# Altium integrated library Microchip Mixed Signal.IntLib: 1399 symbols (part 36 of 39)
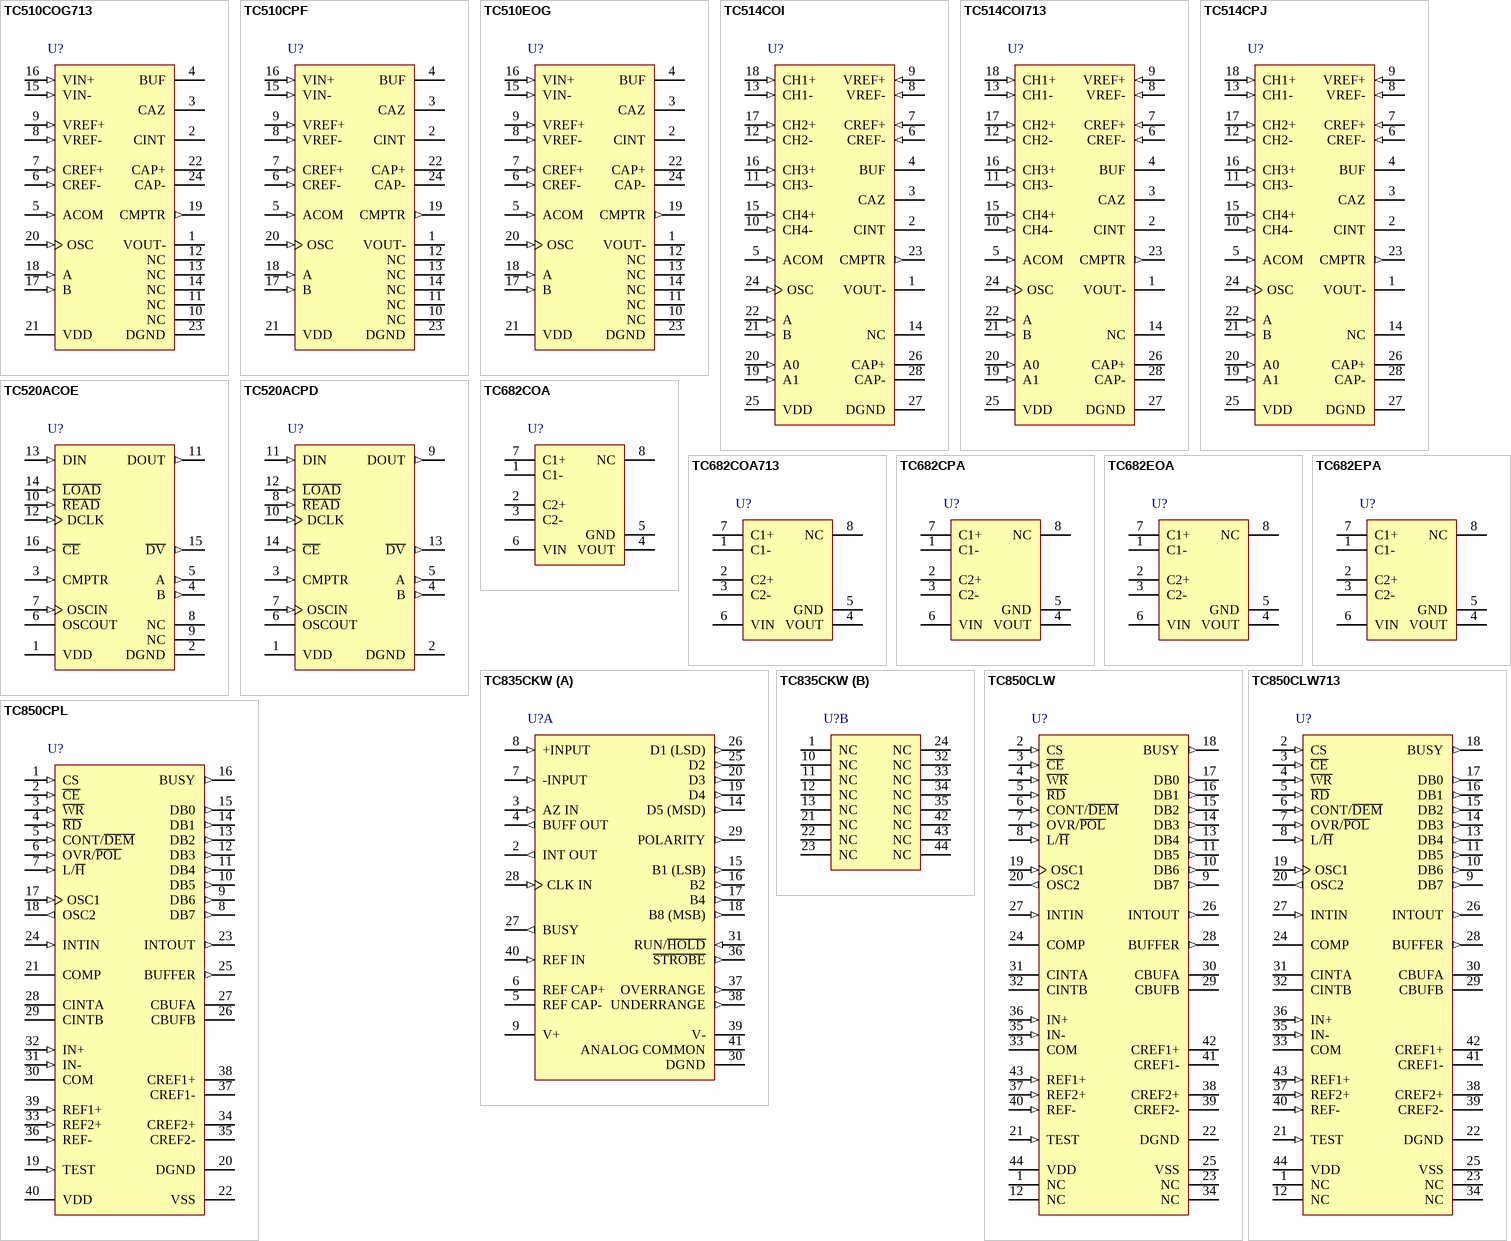
[diagram p79: symbols TC510COG713 to TC850CPL]

## TC510COG713
designator U?
Precision Analog Front Ends, 24-Pin SOIC 300mil, Commercial Temperature, Tape and Reel; Manufacturer: Microchip; PartNumber: TC510COG713; DatasheetVersion: revE, Nov-2008; PackageVersion: revBB, Aug-2009; PackageReference: SOIC-OG24; PackageDescription: 24-Lead Plastic Small Outline (OG) - Wide 7.50mm Body [SOIC]; Supplier 1: Digi-Key; Supplier Part Number 1: TC510COG713-ND; Supplier 2: Mouser; Supplier Part Number 2: 579-TC510COG713; Mounting Technology: Surface Mount; Code_JEDEC: MS-013-AD; ComponentLink1Description: Manufacturer URL; ComponentLink1URL: http://www.microchip.com/; ComponentLink2Description: Datasheet; ComponentLink2URL: http://ww1.microchip.com/downloads/en/DeviceDoc/21428e.pdf; ComponentLink3Description: Package Specification; ComponentLink3URL: http://www.microchip.com/stellent/groups/techpub_sg/documents/packagingspec/en012702.pdf
footprint SOIC-OG24_N (SOIC, 24-Leads, Body 15.4x7.5mm, Pitch 1.27mm, IPC Medium Density)
footprint SOIC-OG24_L (SOIC, 24-Leads, Body 15.4x7.5mm, Pitch 1.27mm, IPC High Density)
footprint SOIC-OG24_M (SOIC, 24-Leads, Body 15.4x7.5mm, Pitch 1.27mm, IPC Low Density)
pins: 1 VOUT- (power), 2 CINT, 3 CAZ, 4 BUF, 5 ACOM (in), 6 CREF- (in), 7 CREF+ (in), 8 VREF- (in), 9 VREF+ (in), 10 NC, 11 NC, 12 NC, 13 NC, 14 NC, 15 VIN- (in), 16 VIN+ (in), 17 B (in), 18 A (in), 19 CMPTR (out), 20 OSC (in), 21 VDD (power), 22 CAP+, 23 DGND (power), 24 CAP-

## TC510CPF
designator U?
Precision Analog Front Ends, 24-Pin PDIP 300mil, Commercial Temperature; Manufacturer: Microchip; PartNumber: TC510CPF; DatasheetVersion: revA, Sep-2006; PackageVersion: revBB, Aug-2009; PackageReference: SPDIP300-PF24; PackageDescription: 24-Lead Skinny Plastic Dual In-Line (PF) - 300 mil Body [SPDIP]; Supplier 1: Digi-Key; Supplier Part Number 1: TC510CPF-ND; Supplier 2: Mouser; Supplier Part Number 2: 579-TC510CPF; Mounting Technology: Through Hole; Code_JEDEC: MS-001-AF; ComponentLink1Description: Manufacturer URL; ComponentLink1URL: http://www.microchip.com/; ComponentLink2Description: Datasheet; ComponentLink2URL: http://ww1.microchip.com/downloads/en/DeviceDoc/22011A.pdf; ComponentLink3Description: Package Specification; ComponentLink3URL: http://www.microchip.com/stellent/groups/techpub_sg/documents/packagingspec/en012702.pdf
footprint SPDIP300-PF24 (DIP, 24-Leads, Row Spacing 7.62mm, Pitch 2.54mm, Body 30.9x6.6mm)
pins: 1 VOUT- (power), 2 CINT, 3 CAZ, 4 BUF, 5 ACOM (in), 6 CREF- (in), 7 CREF+ (in), 8 VREF- (in), 9 VREF+ (in), 10 NC, 11 NC, 12 NC, 13 NC, 14 NC, 15 VIN- (in), 16 VIN+ (in), 17 B (in), 18 A (in), 19 CMPTR (out), 20 OSC (in), 21 VDD (power), 22 CAP+, 23 DGND (power), 24 CAP-

## TC510EOG
designator U?
Precision Analog Front Ends, 24-Pin SOIC 300mil, Extended Temperature; Manufacturer: Microchip; PartNumber: TC510EOG; DatasheetVersion: revE, Nov-2008; PackageVersion: revBB, Aug-2009; PackageReference: SOIC-OG24; PackageDescription: 24-Lead Plastic Small Outline (OG) - Wide 7.50mm Body [SOIC]; Mounting Technology: Surface Mount; Code_JEDEC: MS-013-AD; ComponentLink1Description: Manufacturer URL; ComponentLink1URL: http://www.microchip.com/; ComponentLink2Description: Datasheet; ComponentLink2URL: http://ww1.microchip.com/downloads/en/DeviceDoc/21428e.pdf; ComponentLink3Description: Package Specification; ComponentLink3URL: http://www.microchip.com/stellent/groups/techpub_sg/documents/packagingspec/en012702.pdf
footprint SOIC-OG24_N (SOIC, 24-Leads, Body 15.4x7.5mm, Pitch 1.27mm, IPC Medium Density)
footprint SOIC-OG24_L (SOIC, 24-Leads, Body 15.4x7.5mm, Pitch 1.27mm, IPC High Density)
footprint SOIC-OG24_M (SOIC, 24-Leads, Body 15.4x7.5mm, Pitch 1.27mm, IPC Low Density)
pins: 1 VOUT- (power), 2 CINT, 3 CAZ, 4 BUF, 5 ACOM (in), 6 CREF- (in), 7 CREF+ (in), 8 VREF- (in), 9 VREF+ (in), 10 NC, 11 NC, 12 NC, 13 NC, 14 NC, 15 VIN- (in), 16 VIN+ (in), 17 B (in), 18 A (in), 19 CMPTR (out), 20 OSC (in), 21 VDD (power), 22 CAP+, 23 DGND (power), 24 CAP-

## TC514COI
designator U?
Precision Analog Front Ends, 28-Pin SOIC 300mil, Commercial Temperature; Manufacturer: Microchip; PartNumber: TC514COI; DatasheetVersion: revE, Nov-2008; PackageVersion: revBB, Aug-2009; PackageReference: SOIC-OI28; PackageDescription: 28-Lead Plastic Small Outline (OI) - Wide 7.50mm Body [SOIC]; Supplier 1: Digi-Key; Supplier Part Number 1: TC514COI-ND; Supplier 2: Mouser; Supplier Part Number 2: 579-TC514COI; Mounting Technology: Surface Mount; Code_JEDEC: MS-013-AE; ComponentLink1Description: Manufacturer URL; ComponentLink1URL: http://www.microchip.com/; ComponentLink2Description: Datasheet; ComponentLink2URL: http://ww1.microchip.com/downloads/en/DeviceDoc/21428e.pdf; ComponentLink3Description: Package Specification; ComponentLink3URL: http://www.microchip.com/stellent/groups/techpub_sg/documents/packagingspec/en012702.pdf
footprint SOIC-OI28_N (SOIC, 28-Leads, Body 17.9x7.5mm, Pitch 1.27mm, IPC Medium Density)
footprint SOIC-OI28_L (SOIC, 28-Leads, Body 17.9x7.5mm, Pitch 1.27mm, IPC High Density)
footprint SOIC-OI28_M (SOIC, 28-Leads, Body 17.9x7.5mm, Pitch 1.27mm, IPC Low Density)
pins: 1 VOUT- (power), 2 CINT, 3 CAZ, 4 BUF, 5 ACOM (in), 6 CREF- (in), 7 CREF+ (in), 8 VREF- (in), 9 VREF+ (in), 10 CH4- (in), 11 CH3- (in), 12 CH2- (in), 13 CH1- (in), 14 NC, 15 CH4+ (in), 16 CH3+ (in), 17 CH2+ (in), 18 CH1+ (in), 19 A1 (in), 20 A0 (in), 21 B (in), 22 A (in), 23 CMPTR (out), 24 OSC (in), 25 VDD (power), 26 CAP+, 27 DGND (power), 28 CAP-

## TC514COI713
designator U?
Precision Analog Front Ends, 28-Pin SOIC 300mil, Commercial Temperature, Tape and Reel; Manufacturer: Microchip; PartNumber: TC514COI713; DatasheetVersion: revE, Nov-2008; PackageVersion: revBB, Aug-2009; PackageReference: SOIC-OI28; PackageDescription: 28-Lead Plastic Small Outline (OI) - Wide 7.50mm Body [SOIC]; Supplier 1: Digi-Key; Supplier Part Number 1: TC514COI713-ND; Supplier 2: Mouser; Supplier Part Number 2: 579-TC514COI713; Mounting Technology: Surface Mount; Code_JEDEC: MS-013-AE; ComponentLink1Description: Manufacturer URL; ComponentLink1URL: http://www.microchip.com/; ComponentLink2Description: Datasheet; ComponentLink2URL: http://ww1.microchip.com/downloads/en/DeviceDoc/21428e.pdf; ComponentLink3Description: Package Specification; ComponentLink3URL: http://www.microchip.com/stellent/groups/techpub_sg/documents/packagingspec/en012702.pdf
footprint SOIC-OI28_N (SOIC, 28-Leads, Body 17.9x7.5mm, Pitch 1.27mm, IPC Medium Density)
footprint SOIC-OI28_L (SOIC, 28-Leads, Body 17.9x7.5mm, Pitch 1.27mm, IPC High Density)
footprint SOIC-OI28_M (SOIC, 28-Leads, Body 17.9x7.5mm, Pitch 1.27mm, IPC Low Density)
pins: 1 VOUT- (power), 2 CINT, 3 CAZ, 4 BUF, 5 ACOM (in), 6 CREF- (in), 7 CREF+ (in), 8 VREF- (in), 9 VREF+ (in), 10 CH4- (in), 11 CH3- (in), 12 CH2- (in), 13 CH1- (in), 14 NC, 15 CH4+ (in), 16 CH3+ (in), 17 CH2+ (in), 18 CH1+ (in), 19 A1 (in), 20 A0 (in), 21 B (in), 22 A (in), 23 CMPTR (out), 24 OSC (in), 25 VDD (power), 26 CAP+, 27 DGND (power), 28 CAP-

## TC514CPJ
designator U?
Precision Analog Front Ends, 28-Pin SPDIP, Commercial Temperature; Manufacturer: Microchip; PartNumber: TC514CPJ; DatasheetVersion: revE, Nov-2008; PackageVersion: revBB, Aug-2009; PackageReference: SPDIP300-PJ28; PackageDescription: 28-Lead Skinny Plastic Dual In-Line (PJ) - 300mil Body [SPDIP]; Supplier 1: Digi-Key; Supplier Part Number 1: TC514CPJ-ND; Supplier 2: Mouser; Supplier Part Number 2: 579-TC514CPJ; Mounting Technology: Through Hole; ComponentLink1Description: Manufacturer URL; ComponentLink1URL: http://www.microchip.com/; ComponentLink2Description: Datasheet; ComponentLink2URL: http://ww1.microchip.com/downloads/en/DeviceDoc/21428e.pdf; ComponentLink3Description: Package Specification; ComponentLink3URL: http://www.microchip.com/stellent/groups/techpub_sg/documents/packagingspec/en012702.pdf
footprint SPDIP300-PJ28 (DIP, 28-Leads, Row Spacing 7.62mm, Pitch 2.54mm, Body 34.9x6.8mm)
pins: 1 VOUT- (power), 2 CINT, 3 CAZ, 4 BUF, 5 ACOM (in), 6 CREF- (in), 7 CREF+ (in), 8 VREF- (in), 9 VREF+ (in), 10 CH4- (in), 11 CH3- (in), 12 CH2- (in), 13 CH1- (in), 14 NC, 15 CH4+ (in), 16 CH3+ (in), 17 CH2+ (in), 18 CH1+ (in), 19 A1 (in), 20 A0 (in), 21 B (in), 22 A (in), 23 CMPTR (out), 24 OSC (in), 25 VDD (power), 26 CAP+, 27 DGND (power), 28 CAP-

## TC520ACOE
designator U?
Serial Interface Adapter for TC500 A/D Converter Family, 16-Pin SOIC 300mil, Commercial Temperature; Manufacturer: Microchip; PartNumber: TC520ACOE; DatasheetVersion: Apr-2002; PackageVersion: revBB, Aug-2009; PackageReference: SOIC-OE16; PackageDescription: 16-Lead Plastic Small Outline (OE) - Wide 7.50mm Body [SOIC]; Supplier 1: Digi-Key; Supplier Part Number 1: TC520ACOE-ND; Supplier 2: Mouser; Supplier Part Number 2: 579-TC520ACOE; Mounting Technology: Surface Mount; Code_JEDEC: MS-013-AA; Code_IPC: SOIC127P1030-16; ComponentLink1Description: Manufacturer URL; ComponentLink1URL: http://www.microchip.com/; ComponentLink2Description: Datasheet; ComponentLink2URL: http://ww1.microchip.com/downloads/en/DeviceDoc/21431b.pdf; ComponentLink3Description: Package Specification; ComponentLink3URL: http://www.microchip.com/stellent/groups/techpub_sg/documents/packagingspec/en012702.pdf
footprint SOIC-OE16_N (SOIC, 16-Leads, Body 10.3x7.5mm, Pitch 1.27mm, IPC Medium Density)
footprint SOIC-OE16_L (SOIC, 16-Leads, Body 10.3x7.5mm, Pitch 1.27mm, IPC High Density)
footprint SOIC-OE16_M (SOIC, 16-Leads, Body 10.3x7.5mm, Pitch 1.27mm, IPC Low Density)
pins: 1 VDD (power), 2 DGND (power), 3 CMPTR (in), 4 B (out), 5 A (out), 6 OSCOUT, 7 OSCIN (in), 8 NC, 9 NC, 10 ~{READ} (in), 11 DOUT (out), 12 DCLK (in), 13 DIN (in), 14 ~{LOAD} (in), 15 ~{DV} (out), 16 ~{CE} (in)

## TC520ACPD
designator U?
Serial Interface Adapter for TC500 A/D Converter Family, 14-Pin PDIP, Commercial Temperature; Manufacturer: Microchip; PartNumber: TC520ACPD; DatasheetVersion: Apr-2002; PackageVersion: revBB, Aug-2009; PackageReference: PDIP300-PD14; PackageDescription: 14-Lead Plastic Dual In-Line (PD) - 300 mil Body [PDIP]; Supplier 1: Digi-Key; Supplier Part Number 1: TC520ACPD-ND; Supplier 2: Mouser; Supplier Part Number 2: 579-TC520ACPD; Mounting Technology: Through Hole; Code_JEDEC: MS-001-AA; ComponentLink1Description: Manufacturer URL; ComponentLink1URL: http://www.microchip.com/; ComponentLink2Description: Datasheet; ComponentLink2URL: http://ww1.microchip.com/downloads/en/DeviceDoc/21431b.pdf; ComponentLink3Description: Package Specification; ComponentLink3URL: http://www.microchip.com/stellent/groups/techpub_sg/documents/packagingspec/en012702.pdf
footprint PDIP300-PD14 (DIP, 14-Leads, Row Spacing 7.62mm, Pitch 2.54mm, Body 19.2x6.6mm)
pins: 1 VDD (power), 2 DGND (power), 3 CMPTR (in), 4 B (out), 5 A (out), 6 OSCOUT, 7 OSCIN (in), 8 ~{READ} (in), 9 DOUT (out), 10 DCLK (in), 11 DIN (in), 12 ~{LOAD} (in), 13 ~{DV} (out), 14 ~{CE} (in)

## TC682COA
designator U?
Inverting Voltage Doubler, 8-pin SOIC, Commercial Temperature; Manufacturer: Microchip; PartNumber: TC682COA; DatasheetVersion: revC, Jun-2006; PackageVersion: revBB, Aug-2009; PackageReference: SOIC-OA8; PackageDescription: 8-Lead Plastic Small Outline (OA) - Narrow, 3.90mm Body [SOIC]; Supplier 1: Digi-Key; Supplier Part Number 1: TC682COA-ND; Supplier 2: Mouser; Supplier Part Number 2: 579-TC682COA; Mounting Technology: Surface Mount; Code_IPC: SOIC127P600-8; ComponentLink1Description: Manufacturer URL; ComponentLink1URL: http://www.microchip.com/; ComponentLink2Description: Datasheet; ComponentLink2URL: http://ww1.microchip.com/downloads/en/DeviceDoc/21453C.pdf; ComponentLink3Description: Package Specification; ComponentLink3URL: http://www.microchip.com/stellent/groups/techpub_sg/documents/packagingspec/en012702.pdf
footprint SOIC-OA8_N (SOIC, 8-Leads, Body 4.9x3.9mm, Pitch 1.27mm, IPC Medium Density)
footprint SOIC-OA8_L (SOIC, 8-Leads, Body 4.9x3.9mm, Pitch 1.27mm, IPC High Density)
footprint SOIC-OA8_M (SOIC, 8-Leads, Body 4.9x3.9mm, Pitch 1.27mm, IPC Low Density)
pins: 1 C1-, 2 C2+, 3 C2-, 4 VOUT (power), 5 GND (power), 6 VIN (power), 7 C1+, 8 NC

## TC682COA713
designator U?
Inverting Voltage Doubler, 8-pin SOIC, Commercial Temperature, Tape and Reel; Manufacturer: Microchip; PartNumber: TC682COA713; DatasheetVersion: revC, Jun-2006; PackageVersion: revBB, Aug-2009; PackageReference: SOIC-OA8; PackageDescription: 8-Lead Plastic Small Outline (OA) - Narrow, 3.90mm Body [SOIC]; Supplier 1: Digi-Key; Supplier Part Number 1: TC682COA713-ND; Supplier 2: Mouser; Supplier Part Number 2: 579-TC682COA713; Mounting Technology: Surface Mount; Code_IPC: SOIC127P600-8; ComponentLink1Description: Manufacturer URL; ComponentLink1URL: http://www.microchip.com/; ComponentLink2Description: Datasheet; ComponentLink2URL: http://ww1.microchip.com/downloads/en/DeviceDoc/21453C.pdf; ComponentLink3Description: Package Specification; ComponentLink3URL: http://www.microchip.com/stellent/groups/techpub_sg/documents/packagingspec/en012702.pdf
footprint SOIC-OA8_N (SOIC, 8-Leads, Body 4.9x3.9mm, Pitch 1.27mm, IPC Medium Density)
footprint SOIC-OA8_L (SOIC, 8-Leads, Body 4.9x3.9mm, Pitch 1.27mm, IPC High Density)
footprint SOIC-OA8_M (SOIC, 8-Leads, Body 4.9x3.9mm, Pitch 1.27mm, IPC Low Density)
pins: 1 C1-, 2 C2+, 3 C2-, 4 VOUT (power), 5 GND (power), 6 VIN (power), 7 C1+, 8 NC

## TC682CPA
designator U?
Inverting Voltage Doubler, 8-pin PDIP, Commercial Temperature; Manufacturer: Microchip; PartNumber: TC682CPA; DatasheetVersion: revC, Jun-2006; PackageVersion: revBB, Aug-2009; PackageReference: PDIP300-PA8; PackageDescription: 8-Lead Plastic Dual In-Line (PA) - 300 mil Body [PDIP]; Supplier 1: Digi-Key; Supplier Part Number 1: TC682CPA-ND; Supplier 2: Mouser; Supplier Part Number 2: 579-TC682CPA; Mounting Technology: Through Hole; Code_JEDEC: MS-001-BA; ComponentLink1Description: Manufacturer URL; ComponentLink1URL: http://www.microchip.com/; ComponentLink2Description: Datasheet; ComponentLink2URL: http://ww1.microchip.com/downloads/en/DeviceDoc/21453C.pdf; ComponentLink3Description: Package Specification; ComponentLink3URL: http://www.microchip.com/stellent/groups/techpub_sg/documents/packagingspec/en012702.pdf
footprint PDIP300-PA8 (DIP, 8-Leads, Row Spacing 7.62mm, Pitch 2.54mm, Body 9.5x6.6mm)
pins: 1 C1-, 2 C2+, 3 C2-, 4 VOUT (power), 5 GND (power), 6 VIN (power), 7 C1+, 8 NC

## TC682EOA
designator U?
Inverting Voltage Doubler, 8-pin SOIC, Extended Temperature; Manufacturer: Microchip; PartNumber: TC682EOA; DatasheetVersion: revC, Jun-2006; PackageVersion: revBB, Aug-2009; PackageReference: SOIC-OA8; PackageDescription: 8-Lead Plastic Small Outline (OA) - Narrow, 3.90mm Body [SOIC]; Supplier 1: Digi-Key; Supplier Part Number 1: TC682EOA-ND; Supplier 2: Newark; Supplier Part Number 2: 92C6438; Supplier 3: Mouser; Supplier Part Number 3: 579-TC682EOA; Mounting Technology: Surface Mount; Code_IPC: SOIC127P600-8; ComponentLink1Description: Manufacturer URL; ComponentLink1URL: http://www.microchip.com/; ComponentLink2Description: Datasheet; ComponentLink2URL: http://ww1.microchip.com/downloads/en/DeviceDoc/21453C.pdf; ComponentLink3Description: Package Specification; ComponentLink3URL: http://www.microchip.com/stellent/groups/techpub_sg/documents/packagingspec/en012702.pdf
footprint SOIC-OA8_N (SOIC, 8-Leads, Body 4.9x3.9mm, Pitch 1.27mm, IPC Medium Density)
footprint SOIC-OA8_L (SOIC, 8-Leads, Body 4.9x3.9mm, Pitch 1.27mm, IPC High Density)
footprint SOIC-OA8_M (SOIC, 8-Leads, Body 4.9x3.9mm, Pitch 1.27mm, IPC Low Density)
pins: 1 C1-, 2 C2+, 3 C2-, 4 VOUT (power), 5 GND (power), 6 VIN (power), 7 C1+, 8 NC

## TC682EPA
designator U?
Inverting Voltage Doubler, 8-pin PDIP, Extended Temperature; Manufacturer: Microchip; PartNumber: TC682EPA; DatasheetVersion: revC, Jun-2006; PackageVersion: revBB, Aug-2009; PackageReference: PDIP300-PA8; PackageDescription: 8-Lead Plastic Dual In-Line (PA) - 300 mil Body [PDIP]; Supplier 1: Digi-Key; Supplier Part Number 1: TC682EPA-ND; Supplier 2: Farnell; Supplier Part Number 2: 1852294; Supplier 3: Newark; Supplier Part Number 3: 92C6440; Supplier 4: Mouser; Supplier Part Number 4: 579-TC682EPA; Mounting Technology: Through Hole; Code_JEDEC: MS-001-BA; ComponentLink1Description: Manufacturer URL; ComponentLink1URL: http://www.microchip.com/; ComponentLink2Description: Datasheet; ComponentLink2URL: http://ww1.microchip.com/downloads/en/DeviceDoc/21453C.pdf; ComponentLink3Description: Package Specification; ComponentLink3URL: http://www.microchip.com/stellent/groups/techpub_sg/documents/packagingspec/en012702.pdf
footprint PDIP300-PA8 (DIP, 8-Leads, Row Spacing 7.62mm, Pitch 2.54mm, Body 9.5x6.6mm)
pins: 1 C1-, 2 C2+, 3 C2-, 4 VOUT (power), 5 GND (power), 6 VIN (power), 7 C1+, 8 NC

## TC835CKW
designator U?
Personal Computer Data Acquisition A/D Converter, 200 kHz, Single 5 V Supply, 0 to 70 degC, 44-pin MQFP (KW44), Tray; Manufacturer: Microchip; PartNumber: TC835CKW; DatasheetVersion: Rev. C; PackageVersion: C04-071B; PackageReference: MQFP-KW44; PackageDescription: 44-Lead Plastic Metric Quad Flatpack, 10 x 10 mm Body, 0.8 mm Pitch; Supplier 1: Digi-Key; Supplier Part Number 1: TC835CKW-ND; Supplier 2: Mouser; Supplier Part Number 2: 579-TC835CKW; Mounting Technology: Surface Mount; ComponentLink1Description: Manufacturer URL; ComponentLink1URL: http://www.microchip.com; ComponentLink2Description: Datasheet; ComponentLink2URL: http://ww1.microchip.com/downloads/en/DeviceDoc/21478c.pdf; ComponentLink3Description: Package Specification; ComponentLink3URL: http://www.microchip.com/stellent/groups/techpub_sg/documents/packagingspec/en012702.pdf; ComponentLink4Description: Product URL; ComponentLink4URL: http://www.microchip.com/TC835
footprint MCHP-MQFP-KW44_N (QFP, 44-Leads, Body 10x1mm, Pitch 0.8mm, IPC Medium Density)
footprint MCHP-MQFP-KW44_L (QFP, 44-Leads, Body 10x1mm, Pitch 0.8mm, IPC High Density)
footprint MCHP-MQFP-KW44_M (QFP, 44-Leads, Body 10x1mm, Pitch 0.8mm, IPC Low Density)
part A pins: 2 INT OUT (out) "Integrator output. Integrator capacitor connection.", 3 AZ IN (in) "Auto zero input. Auto zero capacitor connection.", 4 BUFF OUT (out) "Analog input buffer output. Integrator resistor connection.", 5 REF CAP- "Reference capacitor input. Reference capacitor negative connection.", 6 REF CAP+ "Reference capacitor input. Reference capacitor positive connection.", 7 -INPUT (in) "Analog input. Analog input negative connection.", 8 +INPUT (in) "Analog input. Analog input positive connection", 9 V+ (power) "Positive power supply input", 14 D5 (MSD) (out) "Digit drive output. Most Significant Digit (MSD)", 15 B1 (LSB) (out) "Binary Coded Decimal (BCD) output. Least Significant Bit (LSB)", 16 B2 (out) "BCD output.", 17 B4 (out) "BCD output.", 18 B8 (MSB) (out) "BCD output. Most Significant Bit (MSB)", 19 D4 (out) "Digit drive output.", 20 D3 (out) "Digit drive output.", 25 D2 (out) "Digit drive output.", 26 D1 (LSD) (out) "Digit drive output. Leas t Significant Digit (LSD)", 27 BUSY (out) "Busy output. At the beginning of the  signal-integration phase, BUSY goes High and remains High until the first clock pulse after the integrator zero crossing.", 28 CLK IN (in) "Clock input. Conversion clock connection.", 29 POLARITY (out) "Polarity output. A positive input is indicated by a logic High output. The polarity output is valid at the beginning of the reference integrate phase and remains valid until determined during the next conversion.", 30 DGND (power) "Digital logic reference input.", 31 RUN/~{HOLD} (in) "Run / Hold input. When at a logic High, conversions are performed continuously. A logic Low holds the current data as long as the Low condition exists.", 36 ~{STROBE} (out) "Strobe output. The STROBE output pulses low in the center of the digit drive outputs.", 37 OVERRANGE (out) "Over range output. A logic High indicates that the analog input exceeds the full scale input range.", 38 UNDERRANGE (out) "Under range output. A logic High indicates that the analog input is less than 9% of the full scale input range.", 39 V- (power) "Negative power supply input.", 40 REF IN (in) "External reference input.", 41 ANALOG COMMON (power) "Reference point for REF IN."
part B pins: 1 NC "No internal connection.", 10 NC "No internal connection.", 11 NC "No internal connection.", 12 NC "No internal connection.", 13 NC "No internal connection.", 21 NC "No internal connection.", 22 NC "No internal connection.", 23 NC "No internal connection.", 24 NC "No internal connection.", 32 NC "No internal connection.", 33 NC "No internal connection.", 34 NC "No internal connection.", 35 NC "No internal connection.", 42 NC "No internal connection.", 43 NC "No internal connection.", 44 NC "No internal connection."

## TC850CLW
designator U?
15-Bit, Fast Integrating CMOS A/D Converter, 44-Pin PLCC, Commercial Temperature; Manufacturer: Microchip; PartNumber: TC850CLW; DatasheetVersion: Feb-2006; PackageVersion: revBB, Aug-2009; PackageReference: PLCC-LW44; PackageDescription: 44-Lead Plastic Leaded Chip Carrier (LW) - Square [PLCC]; Supplier 1: Digi-Key; Supplier Part Number 1: TC850CLW-ND; Supplier 2: Newark; Supplier Part Number 2: 96K4051; Supplier 3: Mouser; Supplier Part Number 3: 579-TC850CLW; Mounting Technology: Surface Mount; Code_IPC: PLCC-44; ComponentLink1Description: Manufacturer URL; ComponentLink1URL: http://www.microchip.com/; ComponentLink2Description: Datasheet; ComponentLink2URL: http://ww1.microchip.com/downloads/en/DeviceDoc/21479C.pdf; ComponentLink3Description: Package Specification; ComponentLink3URL: http://www.microchip.com/stellent/groups/techpub_sg/documents/packagingspec/en012702.pdf
footprint PLCC-LW44_N (Leaded Chip Carrier, 44-Leads, Body 16.6x16.6mm, Pitch 1.27mm, IPC Medium Density)
footprint PLCC-LW44_L (Leaded Chip Carrier, 44-Leads, Body 16.6x16.6mm, Pitch 1.27mm, IPC High Density)
footprint PLCC-LW44_M (Leaded Chip Carrier, 44-Leads, Body 16.6x16.6mm, Pitch 1.27mm, IPC Low Density)
pins: 1 NC, 2 CS (in), 3 ~{CE} (in), 4 ~{WR} (in), 5 ~{RD} (in), 6 CONT/~{DEM} (in), 7 OVR/~{POL} (in), 8 L/~{H} (in), 9 DB7 (out), 10 DB6 (out), 11 DB5 (out), 12 NC, 13 DB4 (out), 14 DB3 (out), 15 DB2 (out), 16 DB1 (out), 17 DB0 (out), 18 BUSY (out), 19 OSC1 (in), 20 OSC2 (out), 21 TEST (in), 22 DGND (power), 23 NC, 24 COMP, 25 VSS (power), 26 INTOUT (out), 27 INTIN (in), 28 BUFFER (out), 29 CBUFB, 30 CBUFA, 31 CINTA, 32 CINTB, 33 COM (power), 34 NC, 35 IN- (in), 36 IN+ (in), 37 REF2+ (in), 38 CREF2+, 39 CREF2-, 40 REF- (in), 41 CREF1-, 42 CREF1+, 43 REF1+ (in), 44 VDD (power)

## TC850CLW713
designator U?
15-Bit, Fast Integrating CMOS A/D Converter, 44-Pin PLCC, Commercial Temperature, Tape and Reel; Manufacturer: Microchip; PartNumber: TC850CLW713; DatasheetVersion: Feb-2006; PackageVersion: revBB, Aug-2009; PackageReference: PLCC-LW44; PackageDescription: 44-Lead Plastic Leaded Chip Carrier (LW) - Square [PLCC]; Supplier 1: Digi-Key; Supplier Part Number 1: TC850CLW713-ND; Supplier 2: Mouser; Supplier Part Number 2: 579-TC850CLW713; Mounting Technology: Surface Mount; Code_IPC: PLCC-44; ComponentLink1Description: Manufacturer URL; ComponentLink1URL: http://www.microchip.com/; ComponentLink2Description: Datasheet; ComponentLink2URL: http://ww1.microchip.com/downloads/en/DeviceDoc/21479C.pdf; ComponentLink3Description: Package Specification; ComponentLink3URL: http://www.microchip.com/stellent/groups/techpub_sg/documents/packagingspec/en012702.pdf
footprint PLCC-LW44_N (Leaded Chip Carrier, 44-Leads, Body 16.6x16.6mm, Pitch 1.27mm, IPC Medium Density)
footprint PLCC-LW44_L (Leaded Chip Carrier, 44-Leads, Body 16.6x16.6mm, Pitch 1.27mm, IPC High Density)
footprint PLCC-LW44_M (Leaded Chip Carrier, 44-Leads, Body 16.6x16.6mm, Pitch 1.27mm, IPC Low Density)
pins: 1 NC, 2 CS (in), 3 ~{CE} (in), 4 ~{WR} (in), 5 ~{RD} (in), 6 CONT/~{DEM} (in), 7 OVR/~{POL} (in), 8 L/~{H} (in), 9 DB7 (out), 10 DB6 (out), 11 DB5 (out), 12 NC, 13 DB4 (out), 14 DB3 (out), 15 DB2 (out), 16 DB1 (out), 17 DB0 (out), 18 BUSY (out), 19 OSC1 (in), 20 OSC2 (out), 21 TEST (in), 22 DGND (power), 23 NC, 24 COMP, 25 VSS (power), 26 INTOUT (out), 27 INTIN (in), 28 BUFFER (out), 29 CBUFB, 30 CBUFA, 31 CINTA, 32 CINTB, 33 COM (power), 34 NC, 35 IN- (in), 36 IN+ (in), 37 REF2+ (in), 38 CREF2+, 39 CREF2-, 40 REF- (in), 41 CREF1-, 42 CREF1+, 43 REF1+ (in), 44 VDD (power)

## TC850CPL
designator U?
15-Bit, Fast Integrating CMOS A/D Converter, 40-Pin PDIP, Commercial Temperature; Manufacturer: Microchip; PartNumber: TC850CPL; DatasheetVersion: Feb-2006; PackageVersion: revBB, Aug-2009; PackageReference: PDIP600-PL40; PackageDescription: 40-Lead Plastic Dual In-Line (PL) - 600mil Body [PDIP]; Supplier 1: Digi-Key; Supplier Part Number 1: TC850CPL-ND; Supplier 2: Newark; Supplier Part Number 2: 59K0276; Supplier 3: Mouser; Supplier Part Number 3: 579-TC850CPL; Mounting Technology: Through Hole; ComponentLink1Description: Manufacturer URL; ComponentLink1URL: http://www.microchip.com/; ComponentLink2Description: Datasheet; ComponentLink2URL: http://ww1.microchip.com/downloads/en/DeviceDoc/21479C.pdf; ComponentLink3Description: Package Specification; ComponentLink3URL: http://www.microchip.com/stellent/groups/techpub_sg/documents/packagingspec/en012702.pdf
footprint PDIP600-PL40 (DIP, 40-Leads, Row Spacing 15.24mm, Pitch 2.54mm, Body 51.8x13.5mm)
pins: 1 CS (in), 2 ~{CE} (in), 3 ~{WR} (in), 4 ~{RD} (in), 5 CONT/~{DEM} (in), 6 OVR/~{POL} (in), 7 L/~{H} (in), 8 DB7 (out), 9 DB6 (out), 10 DB5 (out), 11 DB4 (out), 12 DB3 (out), 13 DB2 (out), 14 DB1 (out), 15 DB0 (out), 16 BUSY (out), 17 OSC1 (in), 18 OSC2 (out), 19 TEST (in), 20 DGND (power), 21 COMP, 22 VSS (power), 23 INTOUT (out), 24 INTIN (in), 25 BUFFER (out), 26 CBUFB, 27 CBUFA, 28 CINTA, 29 CINTB, 30 COM (power), 31 IN- (in), 32 IN+ (in), 33 REF2+ (in), 34 CREF2+, 35 CREF2-, 36 REF- (in), 37 CREF1-, 38 CREF1+, 39 REF1+ (in), 40 VDD (power)

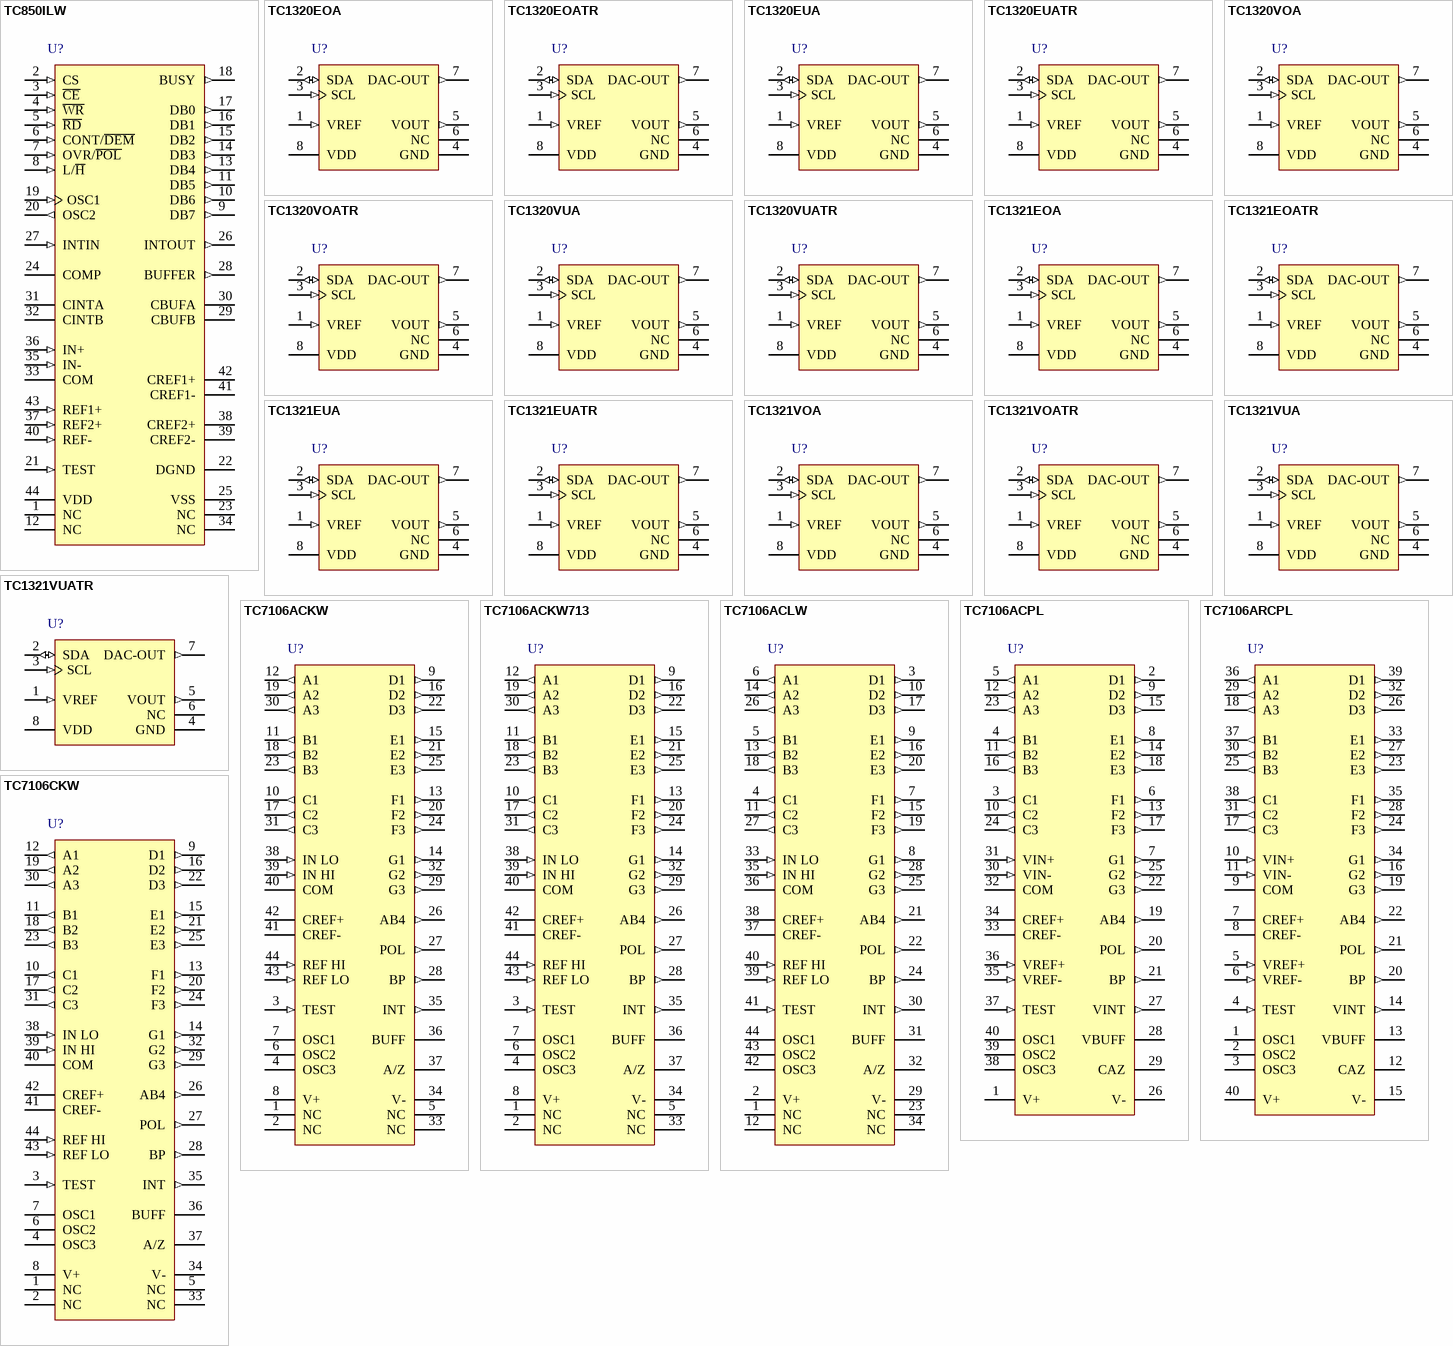
[diagram p38: symbols TC850ILW to TC7106CKW]

## TC850ILW
designator U?
15-Bit, Fast Integrating CMOS A/D Converter, 44-Pin PLCC, Industrial Temperature; Manufacturer: Microchip; PartNumber: TC850ILW; DatasheetVersion: Feb-2006; PackageVersion: revBB, Aug-2009; PackageReference: PLCC-LW44; PackageDescription: 44-Lead Plastic Leaded Chip Carrier (LW) - Square [PLCC]; Supplier 1: Digi-Key; Supplier Part Number 1: TC850ILW-ND; Supplier 2: Mouser; Supplier Part Number 2: 579-TC850ILW; Mounting Technology: Surface Mount; Code_IPC: PLCC-44; ComponentLink1Description: Manufacturer URL; ComponentLink1URL: http://www.microchip.com/; ComponentLink2Description: Datasheet; ComponentLink2URL: http://ww1.microchip.com/downloads/en/DeviceDoc/21479C.pdf; ComponentLink3Description: Package Specification; ComponentLink3URL: http://www.microchip.com/stellent/groups/techpub_sg/documents/packagingspec/en012702.pdf
footprint PLCC-LW44_N (Leaded Chip Carrier, 44-Leads, Body 16.6x16.6mm, Pitch 1.27mm, IPC Medium Density)
footprint PLCC-LW44_L (Leaded Chip Carrier, 44-Leads, Body 16.6x16.6mm, Pitch 1.27mm, IPC High Density)
footprint PLCC-LW44_M (Leaded Chip Carrier, 44-Leads, Body 16.6x16.6mm, Pitch 1.27mm, IPC Low Density)
pins: 1 NC, 2 CS (in), 3 ~{CE} (in), 4 ~{WR} (in), 5 ~{RD} (in), 6 CONT/~{DEM} (in), 7 OVR/~{POL} (in), 8 L/~{H} (in), 9 DB7 (out), 10 DB6 (out), 11 DB5 (out), 12 NC, 13 DB4 (out), 14 DB3 (out), 15 DB2 (out), 16 DB1 (out), 17 DB0 (out), 18 BUSY (out), 19 OSC1 (in), 20 OSC2 (out), 21 TEST (in), 22 DGND (power), 23 NC, 24 COMP, 25 VSS (power), 26 INTOUT (out), 27 INTIN (in), 28 BUFFER (out), 29 CBUFB, 30 CBUFA, 31 CINTA, 32 CINTB, 33 COM (power), 34 NC, 35 IN- (in), 36 IN+ (in), 37 REF2+ (in), 38 CREF2+, 39 CREF2-, 40 REF- (in), 41 CREF1-, 42 CREF1+, 43 REF1+ (in), 44 VDD (power)

## TC1320EOA
designator U?
8-Bit Digital-to-Analog Converter with Two-Wire Interface, 8-Pin SOIC 150mil, Extended Temperature; Manufacturer: Microchip; PartNumber: TC1320EOA; DatasheetVersion: Jan-2002; PackageVersion: revBB, Aug-2009; PackageReference: SOIC-OA8; PackageDescription: 8-Lead Plastic Small Outline (OA) - Narrow, 3.90mm Body [SOIC]; Supplier 1: Digi-Key; Supplier Part Number 1: TC1320EOA-ND; Supplier 2: Farnell; Supplier Part Number 2: 1627182; Supplier 3: Newark; Supplier Part Number 3: 09P7100; Supplier 4: Mouser; Supplier Part Number 4: 579-TC1320EOA; Mounting Technology: Surface Mount; Code_IPC: SOIC127P600-8; ComponentLink1Description: Manufacturer URL; ComponentLink1URL: http://www.microchip.com/; ComponentLink2Description: Datasheet; ComponentLink2URL: http://ww1.microchip.com/downloads/en/DeviceDoc/21386b.pdf; ComponentLink3Description: Package Specification; ComponentLink3URL: http://www.microchip.com/stellent/groups/techpub_sg/documents/packagingspec/en012702.pdf
footprint SOIC-OA8_N (SOIC, 8-Leads, Body 4.9x3.9mm, Pitch 1.27mm, IPC Medium Density)
footprint SOIC-OA8_L (SOIC, 8-Leads, Body 4.9x3.9mm, Pitch 1.27mm, IPC High Density)
footprint SOIC-OA8_M (SOIC, 8-Leads, Body 4.9x3.9mm, Pitch 1.27mm, IPC Low Density)
pins: 1 VREF (in), 2 SDA (io), 3 SCL (in), 4 GND (power), 5 VOUT (out), 6 NC, 7 DAC-OUT (out), 8 VDD (power)

## TC1320EOATR
designator U?
8-Bit Digital-to-Analog Converter with Two-Wire Interface, 8-Pin SOIC 150mil, Extended Temperature, Tape and Reel; Manufacturer: Microchip; PartNumber: TC1320EOATR; DatasheetVersion: Jan-2002; PackageVersion: revBB, Aug-2009; PackageReference: SOIC-OA8; PackageDescription: 8-Lead Plastic Small Outline (OA) - Narrow, 3.90mm Body [SOIC]; Supplier 1: Digi-Key; Supplier Part Number 1: TC1320EOATR-ND; Supplier 2: Mouser; Supplier Part Number 2: 579-TC1320EOATR; Mounting Technology: Surface Mount; Code_IPC: SOIC127P600-8; ComponentLink1Description: Manufacturer URL; ComponentLink1URL: http://www.microchip.com/; ComponentLink2Description: Datasheet; ComponentLink2URL: http://ww1.microchip.com/downloads/en/DeviceDoc/21386b.pdf; ComponentLink3Description: Package Specification; ComponentLink3URL: http://www.microchip.com/stellent/groups/techpub_sg/documents/packagingspec/en012702.pdf
footprint SOIC-OA8_N (SOIC, 8-Leads, Body 4.9x3.9mm, Pitch 1.27mm, IPC Medium Density)
footprint SOIC-OA8_L (SOIC, 8-Leads, Body 4.9x3.9mm, Pitch 1.27mm, IPC High Density)
footprint SOIC-OA8_M (SOIC, 8-Leads, Body 4.9x3.9mm, Pitch 1.27mm, IPC Low Density)
pins: 1 VREF (in), 2 SDA (io), 3 SCL (in), 4 GND (power), 5 VOUT (out), 6 NC, 7 DAC-OUT (out), 8 VDD (power)

## TC1320EUA
designator U?
8-Bit Digital-to-Analog Converter with Two-Wire Interface, 8-Pin MSOP, Extended Temperature; Manufacturer: Microchip; PartNumber: TC1320EUA; DatasheetVersion: Jan-2002; PackageVersion: revBB, Aug-2009; PackageReference: MSOP-UA8; PackageDescription: 8-Lead Plastic Micro Small Outline Package (UA) [MSOP]; Supplier 1: Digi-Key; Supplier Part Number 1: TC1320EUA-ND; Supplier 2: Mouser; Supplier Part Number 2: 579-TC1320EUA; Mounting Technology: Surface Mount; Code_JEDEC: MO-187-AA; ComponentLink1Description: Manufacturer URL; ComponentLink1URL: http://www.microchip.com/; ComponentLink2Description: Datasheet; ComponentLink2URL: http://ww1.microchip.com/downloads/en/DeviceDoc/21386b.pdf; ComponentLink3Description: Package Specification; ComponentLink3URL: http://www.microchip.com/stellent/groups/techpub_sg/documents/packagingspec/en012702.pdf
footprint MSOP-UA8_N (TSOP, 8-Leads, Body 3x3mm, Pitch 0.65mm, IPC Medium Density)
footprint MSOP-UA8_L (TSOP, 8-Leads, Body 3x3mm, Pitch 0.65mm, IPC High Density)
footprint MSOP-UA8_M (TSOP, 8-Leads, Body 3x3mm, Pitch 0.65mm, IPC Low Density)
pins: 1 VREF (in), 2 SDA (io), 3 SCL (in), 4 GND (power), 5 VOUT (out), 6 NC, 7 DAC-OUT (out), 8 VDD (power)

## TC1320EUATR
designator U?
8-Bit Digital-to-Analog Converter with Two-Wire Interface, 8-Pin MSOP, Extended Temperature, Tape and Reel; Manufacturer: Microchip; PartNumber: TC1320EUATR; DatasheetVersion: Jan-2002; PackageVersion: revBB, Aug-2009; PackageReference: MSOP-UA8; PackageDescription: 8-Lead Plastic Micro Small Outline Package (UA) [MSOP]; Supplier 1: Digi-Key; Supplier Part Number 1: TC1320EUATR-ND; Supplier 2: Mouser; Supplier Part Number 2: 579-TC1320EUATR; Mounting Technology: Surface Mount; Code_JEDEC: MO-187-AA; ComponentLink1Description: Manufacturer URL; ComponentLink1URL: http://www.microchip.com/; ComponentLink2Description: Datasheet; ComponentLink2URL: http://ww1.microchip.com/downloads/en/DeviceDoc/21386b.pdf; ComponentLink3Description: Package Specification; ComponentLink3URL: http://www.microchip.com/stellent/groups/techpub_sg/documents/packagingspec/en012702.pdf
footprint MSOP-UA8_N (TSOP, 8-Leads, Body 3x3mm, Pitch 0.65mm, IPC Medium Density)
footprint MSOP-UA8_L (TSOP, 8-Leads, Body 3x3mm, Pitch 0.65mm, IPC High Density)
footprint MSOP-UA8_M (TSOP, 8-Leads, Body 3x3mm, Pitch 0.65mm, IPC Low Density)
pins: 1 VREF (in), 2 SDA (io), 3 SCL (in), 4 GND (power), 5 VOUT (out), 6 NC, 7 DAC-OUT (out), 8 VDD (power)

## TC1320VOA
designator U?
8-Bit Digital-to-Analog Converter with Two-Wire Interface, 8-Pin SOIC 150mil, -40C to +125C Temperature; Manufacturer: Microchip; PartNumber: TC1320VOA; DatasheetVersion: Jan-2002; PackageVersion: revBB, Aug-2009; PackageReference: SOIC-OA8; PackageDescription: 8-Lead Plastic Small Outline (OA) - Narrow, 3.90mm Body [SOIC]; Mounting Technology: Surface Mount; Code_IPC: SOIC127P600-8; ComponentLink1Description: Manufacturer URL; ComponentLink1URL: http://www.microchip.com/; ComponentLink2Description: Datasheet; ComponentLink2URL: http://ww1.microchip.com/downloads/en/DeviceDoc/21386b.pdf; ComponentLink3Description: Package Specification; ComponentLink3URL: http://www.microchip.com/stellent/groups/techpub_sg/documents/packagingspec/en012702.pdf
footprint SOIC-OA8_N (SOIC, 8-Leads, Body 4.9x3.9mm, Pitch 1.27mm, IPC Medium Density)
footprint SOIC-OA8_L (SOIC, 8-Leads, Body 4.9x3.9mm, Pitch 1.27mm, IPC High Density)
footprint SOIC-OA8_M (SOIC, 8-Leads, Body 4.9x3.9mm, Pitch 1.27mm, IPC Low Density)
pins: 1 VREF (in), 2 SDA (io), 3 SCL (in), 4 GND (power), 5 VOUT (out), 6 NC, 7 DAC-OUT (out), 8 VDD (power)

## TC1320VOATR
designator U?
8-Bit Digital-to-Analog Converter with Two-Wire Interface, 8-Pin SOIC 150mil, -40C to +125C Temperature, Tape and Reel; Manufacturer: Microchip; PartNumber: TC1320VOATR; DatasheetVersion: Jan-2002; PackageVersion: revBB, Aug-2009; PackageReference: SOIC-OA8; PackageDescription: 8-Lead Plastic Small Outline (OA) - Narrow, 3.90mm Body [SOIC]; Mounting Technology: Surface Mount; Code_IPC: SOIC127P600-8; ComponentLink1Description: Manufacturer URL; ComponentLink1URL: http://www.microchip.com/; ComponentLink2Description: Datasheet; ComponentLink2URL: http://ww1.microchip.com/downloads/en/DeviceDoc/21386b.pdf; ComponentLink3Description: Package Specification; ComponentLink3URL: http://www.microchip.com/stellent/groups/techpub_sg/documents/packagingspec/en012702.pdf
footprint SOIC-OA8_N (SOIC, 8-Leads, Body 4.9x3.9mm, Pitch 1.27mm, IPC Medium Density)
footprint SOIC-OA8_L (SOIC, 8-Leads, Body 4.9x3.9mm, Pitch 1.27mm, IPC High Density)
footprint SOIC-OA8_M (SOIC, 8-Leads, Body 4.9x3.9mm, Pitch 1.27mm, IPC Low Density)
pins: 1 VREF (in), 2 SDA (io), 3 SCL (in), 4 GND (power), 5 VOUT (out), 6 NC, 7 DAC-OUT (out), 8 VDD (power)

## TC1320VUA
designator U?
8-Bit Digital-to-Analog Converter with Two-Wire Interface, 8-Pin MSOP, -40C to +125C Temperature; Manufacturer: Microchip; PartNumber: TC1320VUA; DatasheetVersion: Jan-2002; PackageVersion: revBB, Aug-2009; PackageReference: MSOP-UA8; PackageDescription: 8-Lead Plastic Micro Small Outline Package (UA) [MSOP]; Mounting Technology: Surface Mount; Code_JEDEC: MO-187-AA; ComponentLink1Description: Manufacturer URL; ComponentLink1URL: http://www.microchip.com/; ComponentLink2Description: Datasheet; ComponentLink2URL: http://ww1.microchip.com/downloads/en/DeviceDoc/21386b.pdf; ComponentLink3Description: Package Specification; ComponentLink3URL: http://www.microchip.com/stellent/groups/techpub_sg/documents/packagingspec/en012702.pdf
footprint MSOP-UA8_N (TSOP, 8-Leads, Body 3x3mm, Pitch 0.65mm, IPC Medium Density)
footprint MSOP-UA8_L (TSOP, 8-Leads, Body 3x3mm, Pitch 0.65mm, IPC High Density)
footprint MSOP-UA8_M (TSOP, 8-Leads, Body 3x3mm, Pitch 0.65mm, IPC Low Density)
pins: 1 VREF (in), 2 SDA (io), 3 SCL (in), 4 GND (power), 5 VOUT (out), 6 NC, 7 DAC-OUT (out), 8 VDD (power)

## TC1320VUATR
designator U?
8-Bit Digital-to-Analog Converter with Two-Wire Interface, 8-Pin MSOP, -40C to +125C Temperature, Tape and Reel; Manufacturer: Microchip; PartNumber: TC1320VUATR; DatasheetVersion: Jan-2002; PackageVersion: revBB, Aug-2009; PackageReference: MSOP-UA8; PackageDescription: 8-Lead Plastic Micro Small Outline Package (UA) [MSOP]; Mounting Technology: Surface Mount; Code_JEDEC: MO-187-AA; ComponentLink1Description: Manufacturer URL; ComponentLink1URL: http://www.microchip.com/; ComponentLink2Description: Datasheet; ComponentLink2URL: http://ww1.microchip.com/downloads/en/DeviceDoc/21386b.pdf; ComponentLink3Description: Package Specification; ComponentLink3URL: http://www.microchip.com/stellent/groups/techpub_sg/documents/packagingspec/en012702.pdf
footprint MSOP-UA8_N (TSOP, 8-Leads, Body 3x3mm, Pitch 0.65mm, IPC Medium Density)
footprint MSOP-UA8_L (TSOP, 8-Leads, Body 3x3mm, Pitch 0.65mm, IPC High Density)
footprint MSOP-UA8_M (TSOP, 8-Leads, Body 3x3mm, Pitch 0.65mm, IPC Low Density)
pins: 1 VREF (in), 2 SDA (io), 3 SCL (in), 4 GND (power), 5 VOUT (out), 6 NC, 7 DAC-OUT (out), 8 VDD (power)

## TC1321EOA
designator U?
10-Bit Digital-to-Analog Converter with Two-Wire Interface, 8-Pin SOIC 150mil, Extended Temperature; Manufacturer: Microchip; PartNumber: TC1321EOA; DatasheetVersion: revC, Nov-2010; PackageVersion: revBB, Aug-2009; PackageReference: SOIC-OA8; PackageDescription: 8-Lead Plastic Small Outline (OA) - Narrow, 3.90mm Body [SOIC]; Supplier 1: Digi-Key; Supplier Part Number 1: TC1321EOA-ND; Supplier 2: Farnell; Supplier Part Number 2: 1605580; Supplier 3: Newark; Supplier Part Number 3: 11N8301; Supplier 4: Mouser; Supplier Part Number 4: 579-TC1321EOA; Mounting Technology: Surface Mount; Code_IPC: SOIC127P600-8; ComponentLink1Description: Manufacturer URL; ComponentLink1URL: http://www.microchip.com/; ComponentLink2Description: Datasheet; ComponentLink2URL: http://ww1.microchip.com/downloads/en/DeviceDoc/21387C.pdf; ComponentLink3Description: Package Specification; ComponentLink3URL: http://www.microchip.com/stellent/groups/techpub_sg/documents/packagingspec/en012702.pdf
footprint SOIC-OA8_N (SOIC, 8-Leads, Body 4.9x3.9mm, Pitch 1.27mm, IPC Medium Density)
footprint SOIC-OA8_L (SOIC, 8-Leads, Body 4.9x3.9mm, Pitch 1.27mm, IPC High Density)
footprint SOIC-OA8_M (SOIC, 8-Leads, Body 4.9x3.9mm, Pitch 1.27mm, IPC Low Density)
pins: 1 VREF (in), 2 SDA (io), 3 SCL (in), 4 GND (power), 5 VOUT (out), 6 NC, 7 DAC-OUT (out), 8 VDD (power)

## TC1321EOATR
designator U?
10-Bit Digital-to-Analog Converter with Two-Wire Interface, 8-Pin SOIC 150mil, Extended Temperature, Tape and Reel; Manufacturer: Microchip; PartNumber: TC1321EOATR; DatasheetVersion: revC, Nov-2010; PackageVersion: revBB, Aug-2009; PackageReference: SOIC-OA8; PackageDescription: 8-Lead Plastic Small Outline (OA) - Narrow, 3.90mm Body [SOIC]; Supplier 1: Digi-Key; Supplier Part Number 1: TC1321EOATR-ND; Supplier 2: Mouser; Supplier Part Number 2: 579-TC1321EOATR; Mounting Technology: Surface Mount; Code_IPC: SOIC127P600-8; ComponentLink1Description: Manufacturer URL; ComponentLink1URL: http://www.microchip.com/; ComponentLink2Description: Datasheet; ComponentLink2URL: http://ww1.microchip.com/downloads/en/DeviceDoc/21387C.pdf; ComponentLink3Description: Package Specification; ComponentLink3URL: http://www.microchip.com/stellent/groups/techpub_sg/documents/packagingspec/en012702.pdf
footprint SOIC-OA8_N (SOIC, 8-Leads, Body 4.9x3.9mm, Pitch 1.27mm, IPC Medium Density)
footprint SOIC-OA8_L (SOIC, 8-Leads, Body 4.9x3.9mm, Pitch 1.27mm, IPC High Density)
footprint SOIC-OA8_M (SOIC, 8-Leads, Body 4.9x3.9mm, Pitch 1.27mm, IPC Low Density)
pins: 1 VREF (in), 2 SDA (io), 3 SCL (in), 4 GND (power), 5 VOUT (out), 6 NC, 7 DAC-OUT (out), 8 VDD (power)

## TC1321EUA
designator U?
10-Bit Digital-to-Analog Converter with Two-Wire Interface, 8-Pin MSOP, Extended Temperature; Manufacturer: Microchip; PartNumber: TC1321EUA; DatasheetVersion: revC, Nov-2010; PackageVersion: revBB, Aug-2009; PackageReference: MSOP-UA8; PackageDescription: 8-Lead Plastic Micro Small Outline Package (UA) [MSOP]; Supplier 1: Digi-Key; Supplier Part Number 1: TC1321EUA-ND; Supplier 2: Mouser; Supplier Part Number 2: 579-TC1321EUA; Mounting Technology: Surface Mount; Code_JEDEC: MO-187-AA; ComponentLink1Description: Manufacturer URL; ComponentLink1URL: http://www.microchip.com/; ComponentLink2Description: Datasheet; ComponentLink2URL: http://ww1.microchip.com/downloads/en/DeviceDoc/21387C.pdf; ComponentLink3Description: Package Specification; ComponentLink3URL: http://www.microchip.com/stellent/groups/techpub_sg/documents/packagingspec/en012702.pdf
footprint MSOP-UA8_N (TSOP, 8-Leads, Body 3x3mm, Pitch 0.65mm, IPC Medium Density)
footprint MSOP-UA8_L (TSOP, 8-Leads, Body 3x3mm, Pitch 0.65mm, IPC High Density)
footprint MSOP-UA8_M (TSOP, 8-Leads, Body 3x3mm, Pitch 0.65mm, IPC Low Density)
pins: 1 VREF (in), 2 SDA (io), 3 SCL (in), 4 GND (power), 5 VOUT (out), 6 NC, 7 DAC-OUT (out), 8 VDD (power)

## TC1321EUATR
designator U?
10-Bit Digital-to-Analog Converter with Two-Wire Interface, 8-Pin MSOP, Extended Temperature, Tape and Reel; Manufacturer: Microchip; PartNumber: TC1321EUATR; DatasheetVersion: revC, Nov-2010; PackageVersion: revBB, Aug-2009; PackageReference: MSOP-UA8; PackageDescription: 8-Lead Plastic Micro Small Outline Package (UA) [MSOP]; Supplier 1: Digi-Key; Supplier Part Number 1: TC1321EUATR-ND; Supplier 2: Mouser; Supplier Part Number 2: 579-TC1321EUATR; Mounting Technology: Surface Mount; Code_JEDEC: MO-187-AA; ComponentLink1Description: Manufacturer URL; ComponentLink1URL: http://www.microchip.com/; ComponentLink2Description: Datasheet; ComponentLink2URL: http://ww1.microchip.com/downloads/en/DeviceDoc/21387C.pdf; ComponentLink3Description: Package Specification; ComponentLink3URL: http://www.microchip.com/stellent/groups/techpub_sg/documents/packagingspec/en012702.pdf
footprint MSOP-UA8_N (TSOP, 8-Leads, Body 3x3mm, Pitch 0.65mm, IPC Medium Density)
footprint MSOP-UA8_L (TSOP, 8-Leads, Body 3x3mm, Pitch 0.65mm, IPC High Density)
footprint MSOP-UA8_M (TSOP, 8-Leads, Body 3x3mm, Pitch 0.65mm, IPC Low Density)
pins: 1 VREF (in), 2 SDA (io), 3 SCL (in), 4 GND (power), 5 VOUT (out), 6 NC, 7 DAC-OUT (out), 8 VDD (power)

## TC1321VOA
designator U?
10-Bit Digital-to-Analog Converter with Two-Wire Interface, 8-Pin SOIC 150mil, -40C to +125C Temperature; Manufacturer: Microchip; PartNumber: TC1321VOA; DatasheetVersion: revC, Nov-2010; PackageVersion: revBB, Aug-2009; PackageReference: SOIC-OA8; PackageDescription: 8-Lead Plastic Small Outline (OA) - Narrow, 3.90mm Body [SOIC]; Mounting Technology: Surface Mount; Code_IPC: SOIC127P600-8; ComponentLink1Description: Manufacturer URL; ComponentLink1URL: http://www.microchip.com/; ComponentLink2Description: Datasheet; ComponentLink2URL: http://ww1.microchip.com/downloads/en/DeviceDoc/21387C.pdf; ComponentLink3Description: Package Specification; ComponentLink3URL: http://www.microchip.com/stellent/groups/techpub_sg/documents/packagingspec/en012702.pdf
footprint SOIC-OA8_N (SOIC, 8-Leads, Body 4.9x3.9mm, Pitch 1.27mm, IPC Medium Density)
footprint SOIC-OA8_L (SOIC, 8-Leads, Body 4.9x3.9mm, Pitch 1.27mm, IPC High Density)
footprint SOIC-OA8_M (SOIC, 8-Leads, Body 4.9x3.9mm, Pitch 1.27mm, IPC Low Density)
pins: 1 VREF (in), 2 SDA (io), 3 SCL (in), 4 GND (power), 5 VOUT (out), 6 NC, 7 DAC-OUT (out), 8 VDD (power)

## TC1321VOATR
designator U?
10-Bit Digital-to-Analog Converter with Two-Wire Interface, 8-Pin SOIC 150mil, -40C to +125C Temperature, Tape and Reel; Manufacturer: Microchip; PartNumber: TC1321VOATR; DatasheetVersion: revC, Nov-2010; PackageVersion: revBB, Aug-2009; PackageReference: SOIC-OA8; PackageDescription: 8-Lead Plastic Small Outline (OA) - Narrow, 3.90mm Body [SOIC]; Mounting Technology: Surface Mount; Code_IPC: SOIC127P600-8; ComponentLink1Description: Manufacturer URL; ComponentLink1URL: http://www.microchip.com/; ComponentLink2Description: Datasheet; ComponentLink2URL: http://ww1.microchip.com/downloads/en/DeviceDoc/21387C.pdf; ComponentLink3Description: Package Specification; ComponentLink3URL: http://www.microchip.com/stellent/groups/techpub_sg/documents/packagingspec/en012702.pdf
footprint SOIC-OA8_N (SOIC, 8-Leads, Body 4.9x3.9mm, Pitch 1.27mm, IPC Medium Density)
footprint SOIC-OA8_L (SOIC, 8-Leads, Body 4.9x3.9mm, Pitch 1.27mm, IPC High Density)
footprint SOIC-OA8_M (SOIC, 8-Leads, Body 4.9x3.9mm, Pitch 1.27mm, IPC Low Density)
pins: 1 VREF (in), 2 SDA (io), 3 SCL (in), 4 GND (power), 5 VOUT (out), 6 NC, 7 DAC-OUT (out), 8 VDD (power)

## TC1321VUA
designator U?
10-Bit Digital-to-Analog Converter with Two-Wire Interface, 8-Pin MSOP, -40C to +125C Temperature; Manufacturer: Microchip; PartNumber: TC1321VUA; DatasheetVersion: revC, Nov-2010; PackageVersion: revBB, Aug-2009; PackageReference: MSOP-UA8; PackageDescription: 8-Lead Plastic Micro Small Outline Package (UA) [MSOP]; Mounting Technology: Surface Mount; Code_JEDEC: MO-187-AA; ComponentLink1Description: Manufacturer URL; ComponentLink1URL: http://www.microchip.com/; ComponentLink2Description: Datasheet; ComponentLink2URL: http://ww1.microchip.com/downloads/en/DeviceDoc/21387C.pdf; ComponentLink3Description: Package Specification; ComponentLink3URL: http://www.microchip.com/stellent/groups/techpub_sg/documents/packagingspec/en012702.pdf
footprint MSOP-UA8_N (TSOP, 8-Leads, Body 3x3mm, Pitch 0.65mm, IPC Medium Density)
footprint MSOP-UA8_L (TSOP, 8-Leads, Body 3x3mm, Pitch 0.65mm, IPC High Density)
footprint MSOP-UA8_M (TSOP, 8-Leads, Body 3x3mm, Pitch 0.65mm, IPC Low Density)
pins: 1 VREF (in), 2 SDA (io), 3 SCL (in), 4 GND (power), 5 VOUT (out), 6 NC, 7 DAC-OUT (out), 8 VDD (power)

## TC1321VUATR
designator U?
10-Bit Digital-to-Analog Converter with Two-Wire Interface, 8-Pin MSOP, -40C to +125C Temperature, Tape and Reel; Manufacturer: Microchip; PartNumber: TC1321VUATR; DatasheetVersion: revC, Nov-2010; PackageVersion: revBB, Aug-2009; PackageReference: MSOP-UA8; PackageDescription: 8-Lead Plastic Micro Small Outline Package (UA) [MSOP]; Mounting Technology: Surface Mount; Code_JEDEC: MO-187-AA; ComponentLink1Description: Manufacturer URL; ComponentLink1URL: http://www.microchip.com/; ComponentLink2Description: Datasheet; ComponentLink2URL: http://ww1.microchip.com/downloads/en/DeviceDoc/21387C.pdf; ComponentLink3Description: Package Specification; ComponentLink3URL: http://www.microchip.com/stellent/groups/techpub_sg/documents/packagingspec/en012702.pdf
footprint MSOP-UA8_N (TSOP, 8-Leads, Body 3x3mm, Pitch 0.65mm, IPC Medium Density)
footprint MSOP-UA8_L (TSOP, 8-Leads, Body 3x3mm, Pitch 0.65mm, IPC High Density)
footprint MSOP-UA8_M (TSOP, 8-Leads, Body 3x3mm, Pitch 0.65mm, IPC Low Density)
pins: 1 VREF (in), 2 SDA (io), 3 SCL (in), 4 GND (power), 5 VOUT (out), 6 NC, 7 DAC-OUT (out), 8 VDD (power)

## TC7106ACKW
designator U?
3-1/2 Digit Analog-to-Digital Converters, 44-Pin MQFP, Commercial Temperature; Manufacturer: Microchip; PartNumber: TC7106ACKW; DatasheetVersion: revD, Feb-2008; PackageVersion: revBB, Aug-2009; PackageReference: MQFP-KW44; PackageDescription: 44-Lead Plastic Metric Quad Flatpack (KW) - 10x10x2mm Body, 3.20mm [MQFP]; Supplier 1: Digi-Key; Supplier Part Number 1: TC7106ACKW-ND; Supplier 2: Mouser; Supplier Part Number 2: 579-TC7106ACKW; Mounting Technology: Surface Mount; Code_JEDEC: MS-022-AB; Code_IPC: QFP80P1320X1320-44; ComponentLink1Description: Manufacturer URL; ComponentLink1URL: http://www.microchip.com/; ComponentLink2Description: Datasheet; ComponentLink2URL: http://ww1.microchip.com/downloads/en/DeviceDoc/21455d.pdf; ComponentLink3Description: Package Specification; ComponentLink3URL: http://www.microchip.com/stellent/groups/techpub_sg/documents/packagingspec/en012702.pdf
footprint MQFP-KW44_N (QFP, 44-Leads, Body 10x10mm, Pitch 0.8mm, IPC Medium Density)
footprint MQFP-KW44_L (QFP, 44-Leads, Body 10x10mm, Pitch 0.8mm, IPC High Density)
footprint MQFP-KW44_M (QFP, 44-Leads, Body 10x10mm, Pitch 0.8mm, IPC Low Density)
pins: 1 NC, 2 NC, 3 TEST (in), 4 OSC3, 5 NC, 6 OSC2, 7 OSC1, 8 V+ (power), 9 D1 (out), 10 C1 (out), 11 B1 (out), 12 A1 (out), 13 F1 (out), 14 G1 (out), 15 E1 (out), 16 D2 (out), 17 C2 (out), 18 B2 (out), 19 A2 (out), 20 F2 (out), 21 E2 (out), 22 D3 (out), 23 B3 (out), 24 F3 (out), 25 E3 (out), 26 AB4 (out), 27 POL (out), 28 BP (out), 29 G3 (out), 30 A3 (out), 31 C3 (out), 32 G2 (out), 33 NC, 34 V- (power), 35 INT (out), 36 BUFF, 37 A/Z, 38 IN LO (in), 39 IN HI (in), 40 COM (power), 41 CREF-, 42 CREF+, 43 REF LO (in), 44 REF HI (in)